# EAGLE library part M002 (library dec-r)
15 Clamped Loads
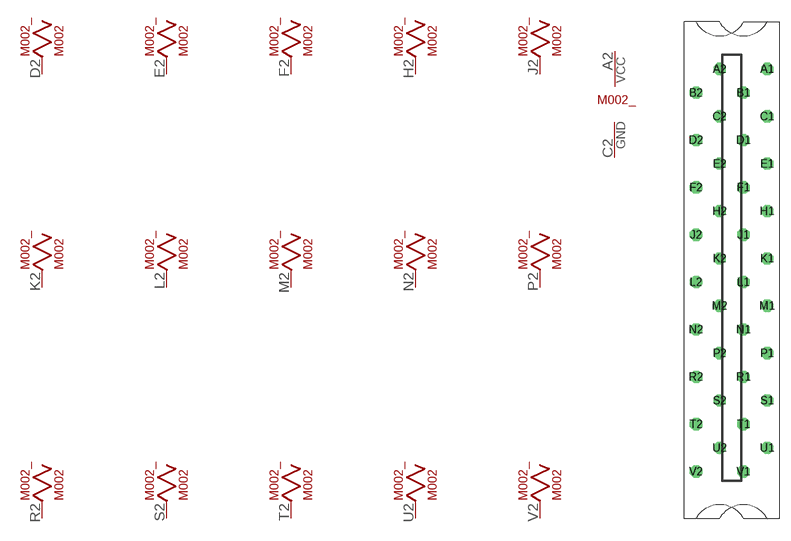
[diagram p49: symbol with the pads of H807; footprint H807]

Designator prefix M002_; gates D2=W005A E2=W005A F2=W005A H2=W005A J2=W005A K2=W005A L2=W005A M2=W005A N2=W005A P2=W005A R2=W005A S2=W005A T2=W005A U2=W005A V2=W005A G$17=POWER

## M002  [H807]
A2  G$17:VCC  pwr
C2  G$17:GND  pwr
D2  D2:P$1  pas
E2  E2:P$1  pas
F2  F2:P$1  pas
H2  H2:P$1  pas
J2  J2:P$1  pas
K2  K2:P$1  pas
L2  L2:P$1  pas
M2  M2:P$1  pas
N2  N2:P$1  pas
P2  P2:P$1  pas
R2  R2:P$1  pas
S2  S2:P$1  pas
T2  T2:P$1  pas
U2  U2:P$1  pas
V2  V2:P$1  pas

## Footprint H807 (pad centres in mm)
One-wide female edge connector
drill 1.092 octagon: A1 4.763,28.575; A2 -1.587,28.575; B1 1.587,25.4; B2 -4.763,25.4; C1 4.763,22.225; C2 -1.587,22.225; D1 1.587,19.05; D2 -4.763,19.05; E1 4.763,15.875; E2 -1.587,15.875; F1 1.587,12.7; F2 -4.763,12.7; H1 4.763,9.525; H2 -1.587,9.525; J1 1.587,6.35; J2 -4.763,6.35; K1 4.763,3.175; K2 -1.587,3.175; L1 1.587,0; L2 -4.763,0; M1 4.763,-3.175; M2 -1.587,-3.175; N1 1.587,-6.35; N2 -4.763,-6.35; P1 4.763,-9.525; P2 -1.587,-9.525; R1 1.587,-12.7; R2 -4.763,-12.7; S1 4.763,-15.875; S2 -1.587,-15.875; T1 1.587,-19.05; T2 -4.763,-19.05; U1 4.763,-22.225; U2 -1.587,-22.225; V1 1.587,-25.4; V2 -4.763,-25.4